# EAGLE library part FTDI (library InterfaceParts)
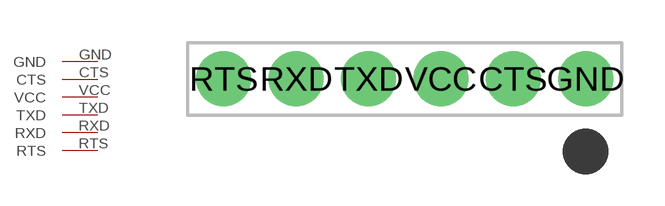
[diagram p6: symbol with the pads of FTDIHEADER; footprint FTDIHEADER]

Designator prefix -

## FTDI  [FTDIHEADER]
CTS  CTS
GND  GND
RTS  RTS
RXD  RXD
TXD  TXD
VCC  VCC

## Footprint FTDIHEADER (pad centres in mm)
drill 0.9 pad 1.93: CTS 3.81,0; GND 6.35,0; RTS -6.35,0; RXD -3.81,0; TXD -1.27,0; VCC 1.27,0